# EAGLE library part MAX9637 (library ds_ic_opa)
3V/5V Low-Power, Low-Noise, CMOS, Rail-to-Rail I/O Op Amps
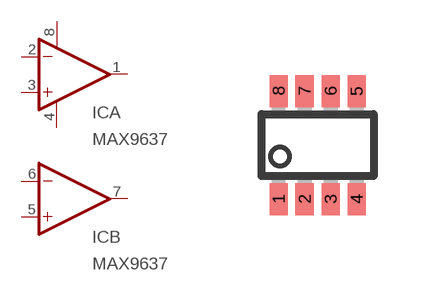
[diagram p12: symbol with the pads of SOT23-8; footprint SOT23-8]

Designator prefix IC; gates A=OPA_PWR B=OPA

## MAX9637  [SOT23-8]
1  A:OUT  out
2  A:-IN  in
3  A:+IN  in
4  A:V-  pwr
5  B:+IN  in
6  B:-IN  in
7  B:OUT  out
8  A:V+  pwr

## Footprint SOT23-8 (pad centres in mm)
smd 0.45 x 0.8: 1 -0.975,-1.35; 2 -0.325,-1.35; 3 0.325,-1.35; 4 0.975,-1.35; 5 0.975,1.35; 6 0.325,1.35; 7 -0.325,1.35; 8 -0.975,1.35